# EAGLE library part ACDA56-51SUR (library Display_LED)
Dual Digit Numeric Display - 7SEG, 0.56" Character size, RED, 10SMD Datasheet <https://www.kingbrightusa.com/images/catalog/SPEC/ACDA56-51SURKWA.pdf>
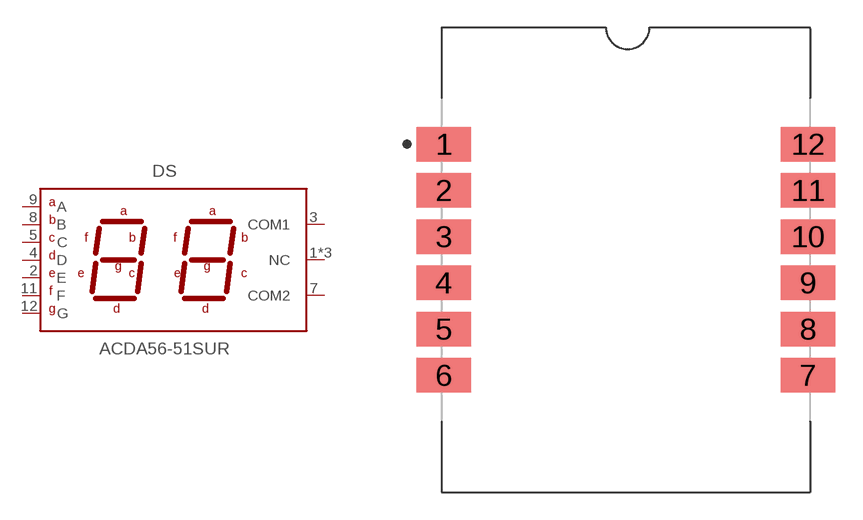
[diagram p0: symbol with the pads of ACDA56-51SURKWA; footprint ACDA56-51SURKWA]

Designator prefix DS

## ACDA56-51SUR (CATEGORY: DISPLAY; COLOR: Hyper Red (AlGaInP); CONFIGURATION: Common Anode; DESCRIPTION: The Hyper Red source color devices are made with AlGaInP on GaAs substrate Light Emitting Diode; DIGIT: Dual Digit; MANUFACTURER: Kingbright; MPN: ACDA56-51SURKWA; OPERATING_TEMP: -40°C to +85 °C; PART_STATUS: Active; ROHS_COMPLIANT: COMPLIANT; SERIES: -; SUB-CATEGORY: LED; THERMALLOSS: 0.075 W; TYPE: 7-Segment; VALUE: ACDA56-51SUR)  [ACDA56-51SURKWA]
1  NC  pas
2  E  pas
3  COM1  pas
4  D  pas
5  C  pas
6  NC  pas
7  COM2  pas
8  B  pas
9  A  pas
10  NC  pas
11  F  pas
12  G  pas

## Footprint ACDA56-51SURKWA (pad centres in mm)
smd 3 x 1.9: 1 -10,6.35; 2 -10,3.81; 3 -10,1.27; 4 -10,-1.27; 5 -10,-3.81; 6 -10,-6.35; 7 10,-6.35; 8 10,-3.81; 9 10,-1.27; 10 10,1.27; 11 10,3.81; 12 10,6.35